# Altium footprint library CAPCP7343X430N.PcbLib: 1 footprints
Each footprint in its own frame and in the unit in brackets; x right, y up, seen from the top. Pads: shape width x height; smd on the part's side, far side on the other; paste and mask are expansions set on the pad; w line width, h text height; cw(c..) or ccw(c..) is an arc to the next point about the centre after c.
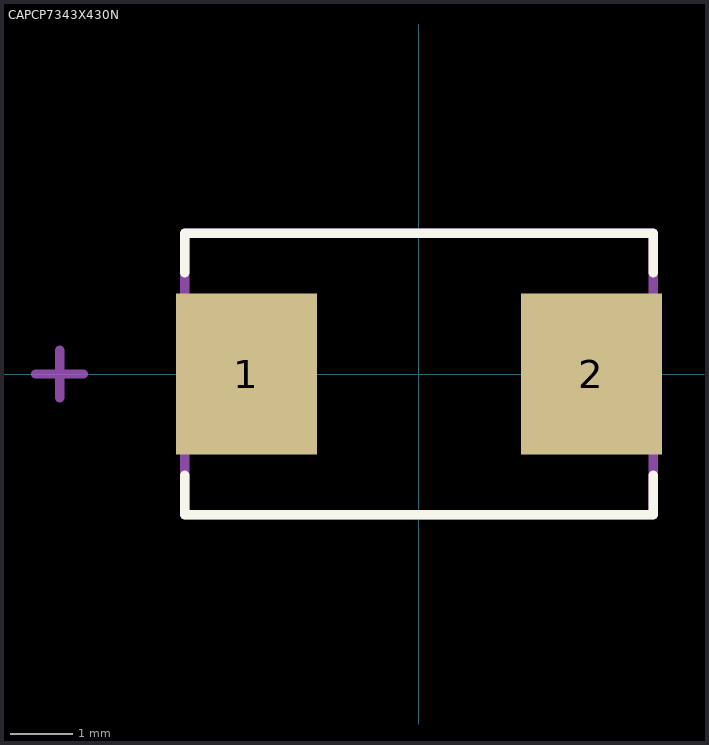
[diagram p0: the footprint, top view; thin cyan lines are the x and y axes]

## CAPCP7343X430N [mil]
pads (2):
  rect 89x102 smd: 1(-109,0) 2(109,0)
Top Overlay:
  lines w6: -148,-64 -148,-89 148,-89 148,-64 ; -148,64 -148,89 148,89 148,64
Mechanical 4:
  lines w6: -148,-89 148,-89 ; -148,-89 -148,89 ; -148,-89 148,-89 ; -148,-89 -148,89 ; -148,89 148,89 ; -148,89 148,89 ; 148,-89 148,89 ; 148,-89 148,89 ; -242,0 -212,0 -242,0 ; -227,-15 -227,15 -227,-15